# EAGLE library part ACSA02-41SEKWA-F01 (library kingbright_ACSA02)
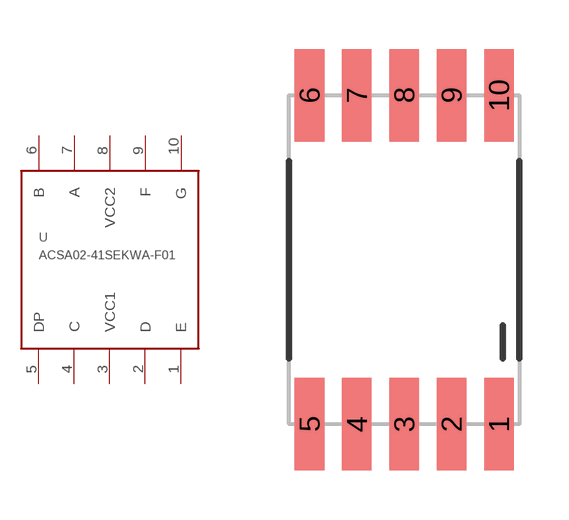
[diagram p0: symbol with the pads of SMTPACK; footprint SMTPACK]

Designator prefix -

## ACSA02-41SEKWA-F01ACSA02_SMD  [SMTPACK]
1  E
2  D
3  VCC1
4  C
5  DP
6  B
7  A
8  VCC2
9  F
10  G

## Footprint SMTPACK (pad centres in mm)
smd 0.9 x 2.8: 1 2.88,-5; 2 1.44,-5; 3 0,-5; 4 -1.44,-5; 5 -2.88,-5; 6 -2.88,5; 7 -1.44,5; 8 0,5; 9 1.44,5; 10 2.88,5